# Altium footprint library TO220AB.PcbLib: 2 footprints
Each footprint in its own frame and in the unit in brackets; x right, y up, seen from the top. Pads: shape width x height; smd on the part's side, far side on the other; paste and mask are expansions set on the pad; w line width, h text height; cw(c..) or ccw(c..) is an arc to the next point about the centre after c.
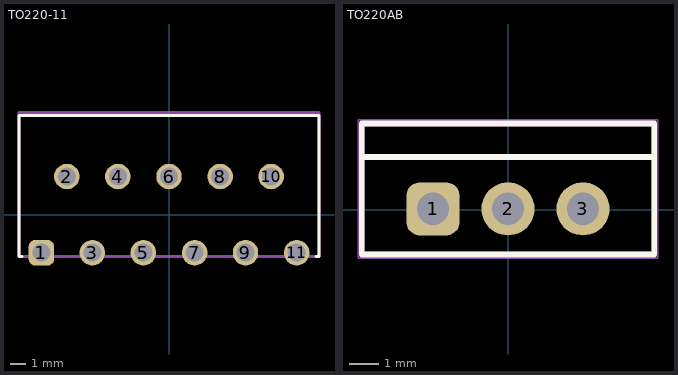
[diagram p0: the footprints below, top view; thin cyan lines are the x and y axes]

## TO220-11 [mm]
pads (11):
  rrect50% 1.7x1.7 hole 1.2: 1(-8.509,-2.54)
  round 1.7 hole 1.2: 2(-6.809,2.54) 3(-5.109,-2.54) 4(-3.409,2.54) 5(-1.709,-2.54) 6(0,2.54) 7(1.709,-2.54) 8(3.409,2.54) 9(5.1,-2.54) 10(6.809,2.54) 11(8.509,-2.54)
Top Overlay:
  lines w0.2: -9.8,-2.794 -10,-2.794 -10,6.606 10,6.606 10,-2.794 9.8,-2.794
Top Assembly:
  lines w0.2: -10,-2.794 9.906,-2.794 10,-2.794 10,6.806 -10,6.806 -10,-2.794
3D body "LM3886T.STEP": height 21.15, standoff -3.65, extent -10,-2.78 10,6.8

## TO220AB [mm]
pads (3):
  rrect50% 1.8x1.8 hole 1.1: 1(-2.54,0.025)
  round 1.8 hole 1.1: 2(0,0.025) 3(2.54,0.025)
Top Overlay:
  lines w0.2: -4.953,1.778 4.953,1.778 ; -4.953,-1.524 -4.953,2.921 4.953,2.921 4.953,-1.524 -4.953,-1.524
Top 3D Body:
  lines w0.2: -4.953,1.778 4.953,1.778 ; -4.953,-1.524 -4.953,2.921 4.953,2.921 4.953,-1.524 -4.953,-1.524
Mechanical 15:
  lines w0.05: -5.08,-1.651 -5.08,3.048 5.08,3.048 5.08,-1.651 -5.08,-1.651
  lines w0.1: -0.5,0 0.5,0 ; 0,-0.5 0,0.5
3D body "User Library-TO220-AB Full.step": height 20.95, standoff -8.08, extent -4.95,-1.516 4.95,2.942